# Altium footprint library APSS Generic Components.PcbLib: 18 footprints (part 2 of 2)
Each footprint in its own frame and in the unit in brackets; x right, y up, seen from the top. Pads: shape width x height; smd on the part's side, far side on the other; paste and mask are expansions set on the pad; w line width, h text height; cw(c..) or ccw(c..) is an arc to the next point about the centre after c.
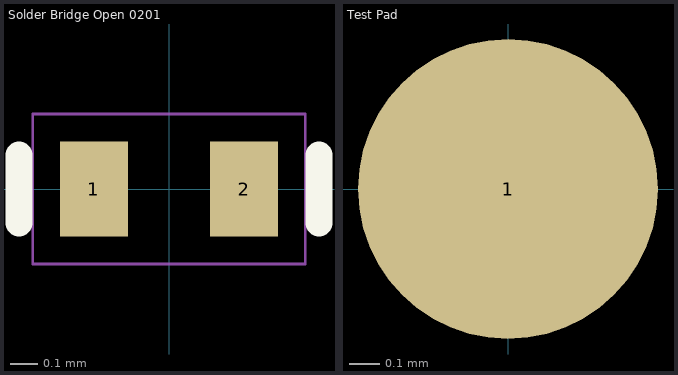
[diagram p1: the footprints below, top view; thin cyan lines are the x and y axes]

## Solder Bridge Open 0201 [mm]
pads (2):
  rect 0.25x0.35 smd paste-100 mask+0: 1(-0.275,0) 2(0.275,0)
Top Overlay:
  lines w0.1: -0.55,-0.125 -0.55,0.125 ; 0.55,-0.125 0.55,0.125
Top Solder:
  rectangle: -0.275,-0.175 0.275,0.175
Mechanical 13:
  lines w0.01: -0.5,-0.275 -0.5,0.275 0.5,0.275 0.5,-0.275 -0.5,-0.275

## Test Pad [mm] "Exposed copper pad"
pads (1):
  round 1 smd paste-10: 1(0,0)